# EAGLE library part AD5206 (library untitled)
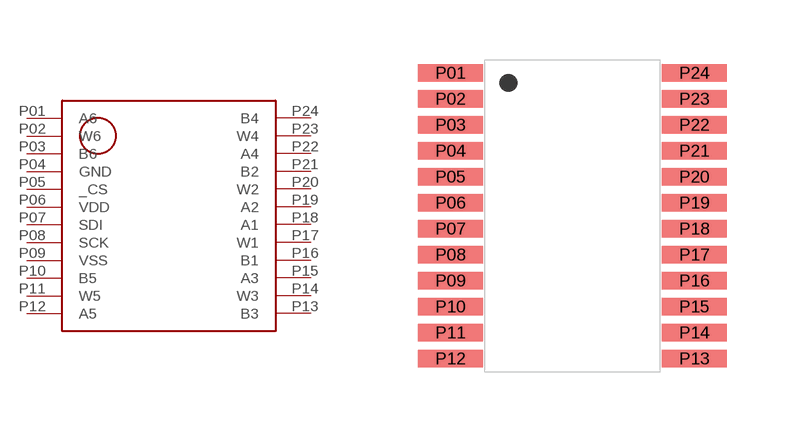
[diagram p3: symbol with the pads of TSSOP24; footprint TSSOP24]

Designator prefix -

## AD5206  [TSSOP24]
P01  A6
P02  W6
P03  B6
P04  GND
P05  _CS
P06  VDD
P07  SDI
P08  SCK
P09  VSS
P10  B5
P11  W5
P12  A5
P13  B3
P14  W3
P15  A3
P16  B1
P17  W1
P18  A1
P19  A2
P20  W2
P21  B2
P22  A4
P23  W4
P24  B4

## Footprint TSSOP24 (pad centres in mm)
smd 1.635 x 0.44: P01 -3.05,3.575; P02 -3.05,2.925; P03 -3.05,2.275; P04 -3.05,1.625; P05 -3.05,0.975; P06 -3.05,0.325; P07 -3.05,-0.325; P08 -3.05,-0.975; P09 -3.05,-1.625; P10 -3.05,-2.275; P11 -3.05,-2.925; P12 -3.05,-3.575; P13 3.05,-3.575; P14 3.05,-2.925; P15 3.05,-2.275; P16 3.05,-1.625; P17 3.05,-0.975; P18 3.05,-0.325; P19 3.05,0.325; P20 3.05,0.975; P21 3.05,1.625; P22 3.05,2.275; P23 3.05,2.925; P24 3.05,3.575